# EAGLE library part Z80DMA (library zilog-rp)
Z80 FAMILY DEVICE
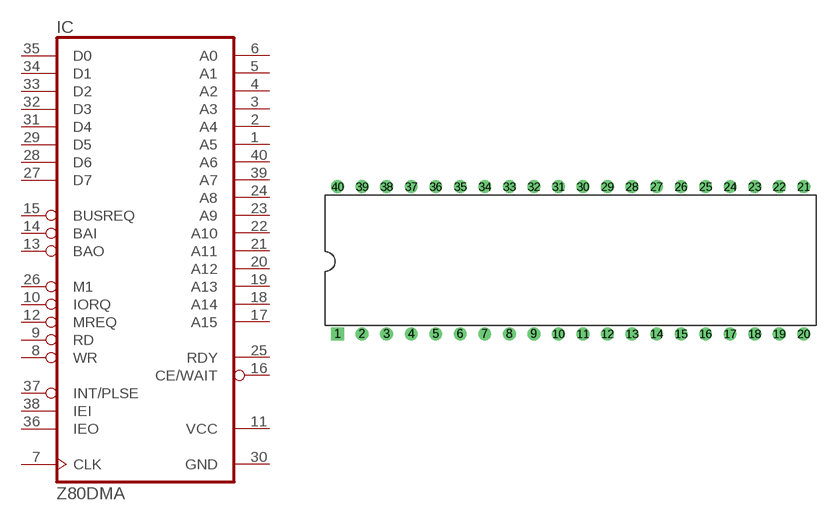
[diagram p5: symbol with the pads of DIL40; footprint DIL40]

Designator prefix IC

## Z80DMA  [DIL40]
1  A5  out
2  A4  out
3  A3  out
4  A2  out
5  A1  out
6  A0  out
7  CLK  in
8  WR
9  RD
10  IORQ
11  VCC  pwr
12  MREQ  out
13  BAO  out
14  BAI  in
15  BUSREQ
16  CE/WAIT  in
17  A15  out
18  A14  out
19  A13  out
20  A12  out
21  A11  out
22  A10  out
23  A9  out
24  A8  out
25  RDY  in
26  M1  in
27  D7
28  D6
29  D5
30  GND  pwr
31  D4
32  D3
33  D2
34  D1
35  D0
36  IEO  out
37  INT/PLSE  oc
38  IEI  in
39  A7  out
40  A6  out

## Footprint DIL40 (pad centres in mm)
Dual In Line Package
drill 0.813 square: 1 -24.13,-7.62
drill 0.813: 2 -21.59,-7.62; 3 -19.05,-7.62; 4 -16.51,-7.62; 5 -13.97,-7.62; 6 -11.43,-7.62; 7 -8.89,-7.62; 8 -6.35,-7.62; 9 -3.81,-7.62; 10 -1.27,-7.62; 11 1.27,-7.62; 12 3.81,-7.62; 13 6.35,-7.62; 14 8.89,-7.62; 15 11.43,-7.62; 16 13.97,-7.62; 17 16.51,-7.62; 18 19.05,-7.62; 19 21.59,-7.62; 20 24.13,-7.62; 21 24.13,7.62; 22 21.59,7.62; 23 19.05,7.62; 24 16.51,7.62; 25 13.97,7.62; 26 11.43,7.62; 27 8.89,7.62; 28 6.35,7.62; 29 3.81,7.62; 30 1.27,7.62; 31 -1.27,7.62; 32 -3.81,7.62; 33 -6.35,7.62; 34 -8.89,7.62; 35 -11.43,7.62; 36 -13.97,7.62; 37 -16.51,7.62; 38 -19.05,7.62; 39 -21.59,7.62; 40 -24.13,7.62